# Altium schematic symbol library Custom ST-Link V2.1.SCHLIB: 27 symbols
Pins are listed as number, name and electrical type; pins without a type are passive.

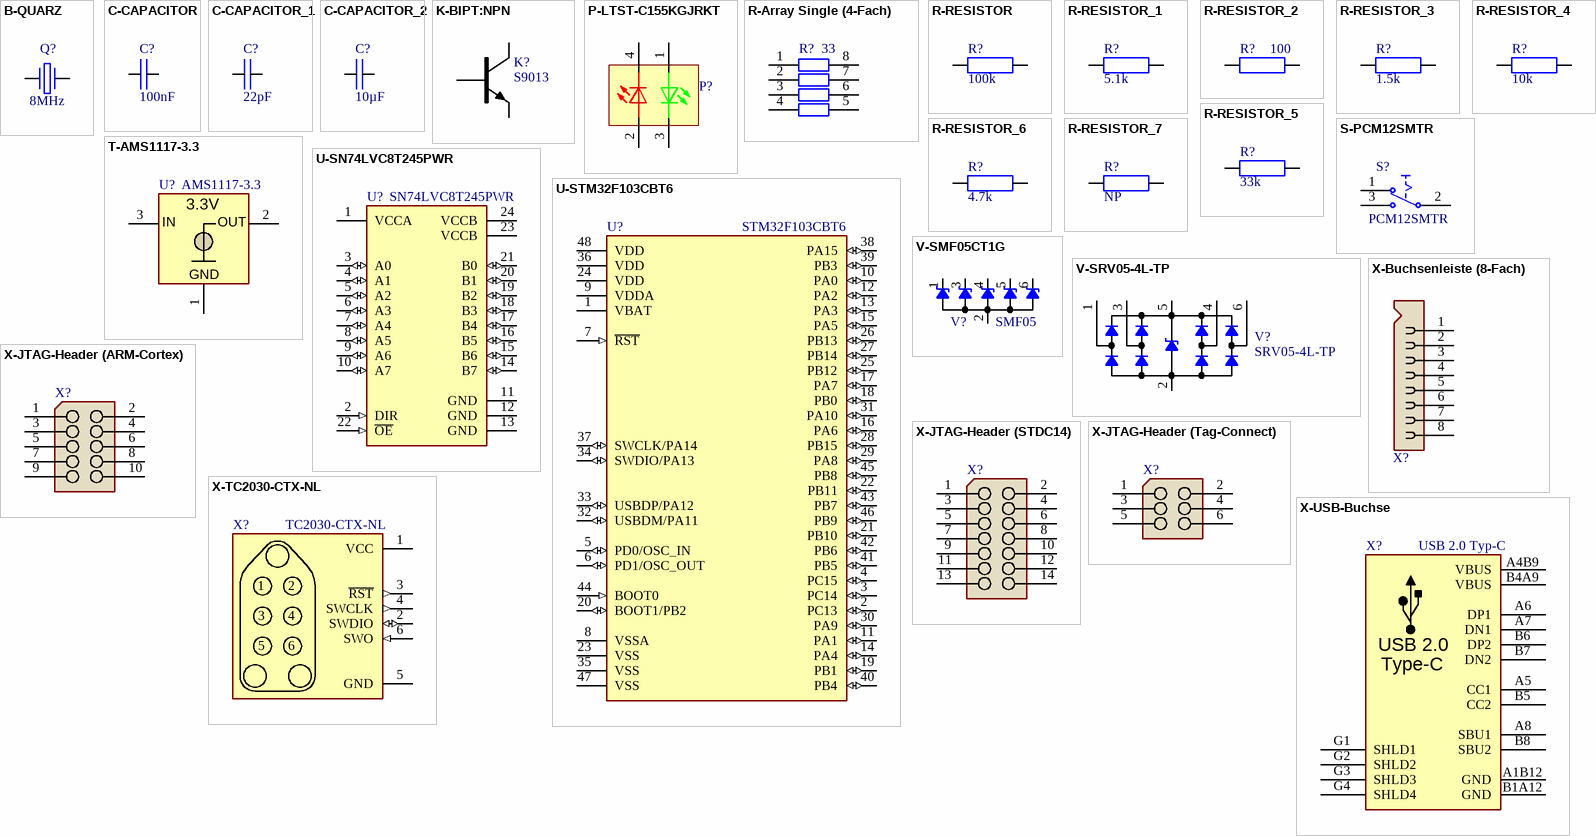
[diagram p0: symbols B-QUARZ to X-USB-Buchse]

## B-QUARZ
designator Q?, comment 8MHz
Crystal with Shielding; Bauteilwert: X50328MSB2GI (8MHz); aliExpress: 32890177031; Stückpreis: 0.17; Beschreibung: Crystal with Shielding; JLC-Parts: C115962; ComponentLink1Description: Datasheet; ComponentLink1URL: https://datasheet.lcsc.com/szlcsc/1903061615_Yangxing-Tech-X50328MSB2GI_C115962.pdf
footprint SMD Crystal 5.0X3.2X1.8 (SMD_LED_RED)
pins: 1, 2

## C-CAPACITOR
designator C?, comment 100nF
CAP-MK; Beschreibung: Keramikvielschichtkondensator; Bauteilwert: 100nF 50V; Stückpreis: 0.01; Digikey: 445-6899-1-ND; Farnell: 2210822; Mouser: 810-CGA2B3X7R1H104K; JLC-Parts: C1525
footprint SMD Keramikkondensator 0402
pins: 1, 2
1 alternate drawing of the same symbol

## C-CAPACITOR_1
designator C?, comment 22pF
CAP-MK; Beschreibung: Keramikvielschichtkondensator; Stückpreis: 0.01; Bauteilwert: 22pF; Digikey: 311-1018-1-ND; Farnell: 3019184; Mouser: 603-CC402JRNPO9BN220; JLC-Parts: C1555
footprint SMD Keramikkondensator 0402
pins: 1, 2
1 alternate drawing of the same symbol

## C-CAPACITOR_2
designator C?, comment 10µF
CAP-MK; Beschreibung: Keramikvielschichtkondensator; Bauteilwert: 10µF 10V; Stückpreis: 0.17; Digikey: 587-3258-1-ND; Farnell: 2113070; Mouser: 963-LMK107BBJ106MALT; JLC-Parts: C19702
footprint SMD Keramikkondensator 0603
pins: 1, 2
1 alternate drawing of the same symbol

## K-BIPT:NPN
designator K?, comment S9013
Transistor NPN (alt V und T); Beschreibung: General Purpose Transistor NPN; aliExpress: 4001032177922; Stückpreis: 0.01; Bauteilwert: S9013; ComponentLink1Description: Datasheet; ComponentLink1URL: https://datasheet.lcsc.com/szlcsc/Changjiang-Electronics-Tech-CJ-S9013_C6749.pdf; JLC-Parts: C6749
footprint SMD Transistor SOT-23
pins: B, C, E
2 alternate drawings of the same symbol

## P-LTST-C155KGJRKT
designator P?, comment LTST-C155KGJRKT  (value not drawn)
LED Red/Green; Stückpreis: 0.35; Bauteilwert: LTST-C155KGJRKT; Beschreibung: LED Red/Green; Digikey: 160-1409-1-ND; Farnell: 2062277; Mouser: 859-LTST-C155KGJRKT; ComponentLink1Description: Datasheet; ComponentLink1URL: https://datasheet.lcsc.com/szlcsc/Lite-On-LTST-C155KGJRKT_C115448.pdf; JLC-Parts: C115448
footprint SMD LED 1210 (SMD_LED_RED)
pins: 1 GA, 2 RA, 3 GC, 4 RC

## R-Array Single (4-Fach)
designator R?, comment 33
Isolated Resistor Array; Bauteilwert: 33 (4x, 50V, 62.5mW, 5%); Stückpreis: 0.01; Beschreibung: Isolated Resistor Array; Digikey: Y7330CT-ND; Farnell: 2060035; JLC-Parts: C25501; Mouser: 667-EXB-28V330JX
footprint SMD Widerstand Array 4-Fach 0402
pins: 1, 2, 3, 4, 5, 6, 7, 8

## R-RESISTOR
designator R?, comment 100k
RES (E=Heizwiderstand B=Messwandler); Beschreibung: Dickschicht Chipwiderstand; Bauteilwert: 100k (75V, 100mW, 1%); Stückpreis: 0.01; Digikey: P100KLCT-ND; Farnell: 2302839; Mouser: 667-ERJ-2RKF1003X; JLC-Parts: C25741
footprint SMD Widerstand 0402
pins: 1, 2
1 alternate drawing of the same symbol

## R-RESISTOR_1
designator R?, comment 5.1k
SMD-Widerstand 1/4W; Beschreibung: Dickschicht Chipwiderstand; Bauteilwert: 5.1k (75V, 100mW, 1%); Stückpreis: 0.01; Digikey: P5.10KLCT-ND; Farnell: 2302709; Mouser: 667-ERJ-2RKF5101X; JLC-Parts: C25905
footprint SMD Widerstand 0402
pins: 1, 2
1 alternate drawing of the same symbol

## R-RESISTOR_2
designator R?, comment 100
SMD-Widerstand 1/4W; Beschreibung: Dickschicht Chipwiderstand; Bauteilwert: 100 (75V, 100mW, 1%); Stückpreis: 0.06; Digikey: P100LCT-ND; Farnell: 2302528; Mouser: 667-ERJ-2RKF1000X; JLC-Parts: C25076
footprint SMD Widerstand 0402
pins: 1, 2
1 alternate drawing of the same symbol

## R-RESISTOR_3
designator R?, comment 1.5k
RES (E=Heizwiderstand B=Messwandler); Beschreibung: Dickschicht Chipwiderstand; Bauteilwert: 1.5k (75V, 100mW, 1%); Stückpreis: 0.01; Digikey: P1.50KLCT-ND; Farnell: 2302656; Mouser: 667-ERJ-2RKF1501X; JLC-Parts: C25867
footprint SMD Widerstand 0402
pins: 1, 2
1 alternate drawing of the same symbol

## R-RESISTOR_4
designator R?, comment 10k
RES (E=Heizwiderstand B=Messwandler); Beschreibung: Dickschicht Chipwiderstand; Bauteilwert: 10k (75V, 100mW, 1%); Stückpreis: 0.01; Digikey: P10.0KLCT-ND; Farnell: 2302739; Mouser: 667-ERJ-2RKF1002X; JLC-Parts: C25744
footprint SMD Widerstand 0402
pins: 1, 2
1 alternate drawing of the same symbol

## R-RESISTOR_5
designator R?, comment 33k
RES (E=Heizwiderstand B=Messwandler); Beschreibung: Dickschicht Chipwiderstand; Bauteilwert: 33k (75V, 100mW, 1%); Stückpreis: 0.01; Digikey: P33.0KLCT-ND; Farnell: 2561707; Mouser: 667-ERJ-2RKF3302X; JLC-Parts: C25779
footprint SMD Widerstand 0402
pins: 1, 2
1 alternate drawing of the same symbol

## R-RESISTOR_6
designator R?, comment 4.7k
SMD-Widerstand 1/4W; Beschreibung: Dickschicht Chipwiderstand; Bauteilwert: 4.7k (75V, 100mW, 1%); Stückpreis: 0.01; Digikey: P4.70KLCT-ND; Farnell: 2302707; Mouser: 667-ERJ-2RKF4701X; JLC-Parts: C25900
footprint SMD Widerstand 0402
pins: 1, 2
1 alternate drawing of the same symbol

## R-RESISTOR_7
designator R?, comment NP
RES (E=Heizwiderstand B=Messwandler); Beschreibung: Dickschicht Chipwiderstand; Bauteilwert: NP
footprint SMD Widerstand 0402
pins: 1, 2
1 alternate drawing of the same symbol

## S-PCM12SMTR
designator S?, comment PCM12SMTR
Miniature Slide Switch; Stückpreis: 0.77; Bauteilwert: PCM12SMTR (SPDT); aliExpress: 33002042977; Digikey: 401-2016-1-ND; Beschreibung: Miniature Slide Switch; Mouser: 611-PCM12SMTR; Farnell: 9575146
footprint SMD Switch SPDT (PCM12SMTR)
pins: 1 NC1, 2 COMMON1, 3 NO1

## T-AMS1117-3.3
designator U?, comment AMS1117-3.3
LDO Voltage Regulator; Beschreibung: Spannungsregler LDO; Bauteilwert: AMS1117-3.3 (3.3V, 1A); Stückpreis: 0.12; Digikey: LM1117IMP-3.3/NOPBCT-ND; Farnell: 3116241; Mouser: 926-LM1117IMP3.3NOPB; JLC-Parts: C6186
footprint SMD IC SOT-223 (SOT-223/SC-73; 4 Leads; Body 6.7 x 7.3 mm, inc. leads (LxW max))
pins: 1 GND (power), 2 OUT (power), 3 IN (power)
text: 3.3V

## U-SN74LVC8T245PWR
designator U?, comment SN74LVC8T245PWR
Octal dual supply translating transceiver; Beschreibung: 8-Bit Dual-Supply Bus Transceiver; aliExpress: 32958343098; Stückpreis: 0.52; Bauteilwert: SN74LVC8T245PWR; Digikey: 296-18593-1-ND; Farnell: 2459199; Mouser: 595-SN74LVC8T245PWR; ComponentLink1Description: Datasheet; ComponentLink1URL: https://www.ti.com/lit/ds/symlink/sn74lvc8t245.pdf?HQS=TI-null-null-digikeymode-df-pf-null-wwe&ts=1607029625665; JLC-Parts: C27643
footprint SMD IC TSSOP-24 (Shrink Small Outline; 16 Leads; Body Width 4.4 mm; Pitch 0.65 mm)
pins: 1 VCCA (power), 2 DIR (in), 3 A0 (io), 4 A1 (io), 5 A2 (io), 6 A3 (io), 7 A4 (io), 8 A5 (io), 9 A6 (io), 10 A7 (io), 11 GND (power), 12 GND (power), 13 GND (power), 14 B7 (io), 15 B6 (io), 16 B5 (io), 17 B4 (io), 18 B3 (io), 19 B2 (io), 20 B1 (io), 21 B0 (io), 22 ~{OE} (in), 23 VCCB (power), 24 VCCB (power)

## U-STM32F103CBT6
designator U?, comment STM32F103CBT6
ARM Cortex-M3 MCU (72MHz, 128kB, 20kB); aliExpress: 4001126101952; Stückpreis: 3.87; Bauteilwert: STM32F103CBT6; Beschreibung: ARM Cortex-M3 MCU (72MHz, 128kB, 20kB); Digikey: 497-6288-ND; Farnell: 1606327; Mouser: 511-STM32F103CBT6; JLC-Parts: C8304
footprint SMD IC LQFP-48
pins: 1 VBAT (power), 2 PC13 (io), 3 PC14 (io), 4 PC15 (io), 5 PD0/OSC_IN (io), 6 PD1/OSC_OUT (io), 7 ~{RST} (in), 8 VSSA (power), 9 VDDA (power), 10 PA0 (io), 11 PA1 (io), 12 PA2 (io), 13 PA3 (io), 14 PA4 (io), 15 PA5 (io), 16 PA6 (io), 17 PA7 (io), 18 PB0 (io), 19 PB1 (io), 20 BOOT1/PB2 (io), 21 PB10 (io), 22 PB11 (io), 23 VSS (power), 24 VDD (power), 25 PB12 (io), 26 PB13 (io), 27 PB14 (io), 28 PB15 (io), 29 PA8 (io), 30 PA9 (io), 31 PA10 (io), 32 USBDM/PA11 (io), 33 USBDP/PA12 (io), 34 SWDIO/PA13 (io), 35 VSS (power), 36 VDD (power), 37 SWCLK/PA14 (io), 38 PA15 (io), 39 PB3 (io), 40 PB4 (io), 41 PB5 (io), 42 PB6 (io), 43 PB7 (io), 44 BOOT0 (in), 45 PB8 (io), 46 PB9 (io), 47 VSS (power), 48 VDD (power)

## V-SMF05CT1G
designator V?, comment SMF05
Suppressor Diode Array; Stückpreis: 0.11; AliExpress: 32921815664; Bauteilwert: SMF05CT1G; Farnell: 2533147; Digikey: SMF05CT1GOSCT-ND; Mouser: 863-SMF05CT1G; Beschreibung: Suppressor Diode Array; JLC-Parts: C15879
footprint SMD IC SOT-363 (SC-70-6)
pins: 1 K, 2 A, 3 K, 4 K, 5 K, 6 K
1 alternate drawing of the same symbol

## V-SRV05-4L-TP
designator V?, comment SRV05-4L-TP
Ultra Low Capacitance TVS Array; Stückpreis: 0.16; AliExpress: 32921815664; Farnell: 1924492; Digikey: SRV05-4L-TPMSCT-ND; Mouser: 833-SRV05-4L-TP863-SMF05CT1G; Beschreibung: Ultra Low Capacitance TVS Array; Bauteilwert: SRV05-4L-TP; JLC-Parts: C85364
footprint SMD IC SOT-23-6 (SOT-223/SC-73; 4 Leads; Body 6.7 x 7.3 mm, inc. leads (LxW max))
pins: 1 K, 2 A, 3 K, 4 K, 5 K, 6 K

## X-Buchsenleiste (8-Fach)
designator X?, comment Buchsenleiste (8-Fach)  (value not drawn)
Beschreibung: Pin Header Right Angle Female; Bauteilwert: M20-7910842R (8-Pin); aliExpress: 33004022240; Stückpreis: 0.94; Digikey: 952-3200-1-ND; Farnell: 3226218; Mouser: 855-M20-7910842R
footprint SMD Buchsenleiste 8-Pol (1x8) 90°
pins: 1, 2, 3, 4, 5, 6, 7, 8

## X-JTAG-Header (ARM-Cortex)
designator X?, comment JTAG-Header (ARM-Cortex)  (value not drawn)
Bauteilwert: SHF-105-01-L-D-SM (2x5); Stückpreis: 2.89; Beschreibung: JTAG-Header (ARM-Cortex); Digikey: SAM10710-ND; Farnell: 1885915; Mouser: 200-SHF10501LDSM
footprint SMD Connector 1.27mm (2x5)
pins: 1, 2, 3, 4, 5, 6, 7, 8, 9, 10

## X-JTAG-Header (STDC14)
designator X?, comment JTAG-Header (STDC14)  (value not drawn)
Bauteilwert: SHF-107-01-L-D-SM (2x7); Stückpreis: 0.87; Beschreibung: JTAG-Header (STDC14); Digikey: 1175-1632-ND; Mouser: 200-SHF10701LDSM
footprint SMD Connector 1.27mm (2x7)
pins: 1, 2, 3, 4, 5, 6, 7, 8, 9, 10, 11, 12, 13, 14

## X-JTAG-Header (Tag-Connect)
designator X?, comment JTAG-Header (Tag-Connect)  (value not drawn)
Bauteilwert: N2506-6V0C-RB-WD (6-Pol); aliExpress: 32769730667; Stückpreis: 0.47; Beschreibung: JTAG-Header (Tag-Connect); Digikey: 1175-1864-ND; Mouser: 517-N2506-6V0C-RB-WD
footprint SMD Flachbandkabel 6-Pol Vertikal
pins: 1, 2, 3, 4, 5, 6

## X-TC2030-CTX-NL
designator X?, comment TC2030-CTX-NL  (no BOM)
Tag-Connect for ARM-Cortex (6-Pin); Stückpreis: 0.00; Bauteilwert: TC2030-CTX-NL; Beschreibung: Tag-Connect for ARM-Cortex (6-Pin)
footprint SMD Connector TC2030-CTX-NL
pins: 1 VCC (power), 2 SWDIO (io), 3 ~{RST} (out), 4 SWCLK (out), 5 GND (power), 6 SWO (in)

## X-USB-Buchse
designator X?, comment USB 2.0 Typ-C
Typ-C; Bauteilwert: USB 2.0 Typ-C (USB4105-GF-A); Beschreibung: USB Buchse; aliExpress: 33045191307; Stückpreis: 1.72; Digikey: 2073-USB4105-GF-ACT-ND; Farnell: 3583366
footprint SMD USB-C Socket (A40-00119)
pins: A1B12 GND, A4B9 VBUS, A5 CC1, A6 DP1, A7 DN1, A8 SBU1, B1A12 GND, B4A9 VBUS, B5 CC2, B6 DP2, B7 DN2, B8 SBU2, G1 SHLD1, G2 SHLD2, G3 SHLD3, G4 SHLD4
text: USB 2.0; Type-C